# EAGLE library part AD7303 (library Digilent)
125-030: AD7303 DAC
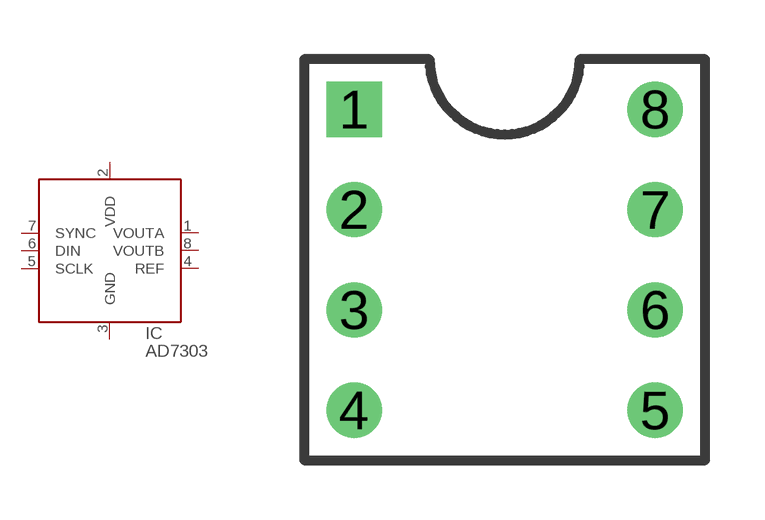
[diagram p42: symbol with the pads of DIP-8C; footprint DIP-8C]

Designator prefix IC

## AD7303N  [DIP-8C]
1  VOUTA
2  VDD  pwr
3  GND  pwr
4  REF
5  SCLK
6  DIN
7  SYNC
8  VOUTB

## Footprint DIP-8C (pad centres in mm)
drill 0.889 square: 1 -3.81,3.81
drill 0.889 round: 2 -3.81,1.27; 3 -3.81,-1.27; 4 -3.81,-3.81; 5 3.81,-3.81; 6 3.81,-1.27; 7 3.81,1.27; 8 3.81,3.81